# EAGLE library part MOLEX_MINIFIT-16 (library molex_mini-fit)
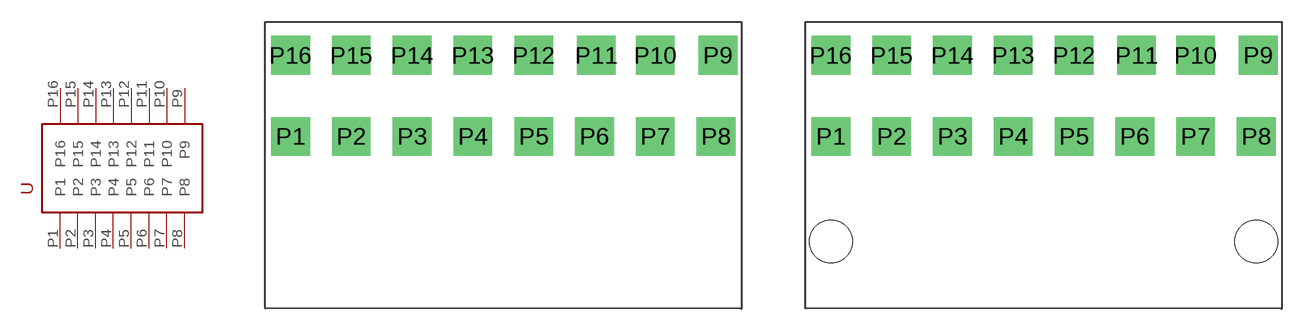
[diagram p2: symbol with the pads of MOLEX_MINIFIT-16_NO_PEG; footprints MOLEX_MINIFIT-16_NO_PEG, MOLEX_MINIFIT-16]

Designator prefix -

## MOLEX_MINIFIT-16NO_PEG  [MOLEX_MINIFIT-16_NO_PEG]
P1  P1
P2  P2
P3  P3
P4  P4
P5  P5
P6  P6
P7  P7
P8  P8
P9  P9
P10  P10
P11  P11
P12  P12
P13  P13
P14  P14
P15  P15
P16  P16

## MOLEX_MINIFIT-16PEG  [MOLEX_MINIFIT-16]
Pads as for MOLEX_MINIFIT-16_NO_PEG

## MOLEX_MINIFIT-16VERTICAL  [MOLEX_MINIFIT-16_VERTICAL]
Pads as for MOLEX_MINIFIT-16_NO_PEG

## Footprint MOLEX_MINIFIT-16_NO_PEG (pad centres in mm)
drill 1.778 pad 2.54 square: P1 -14.732,-2.794; P2 -10.541,-2.794; P3 -6.35,-2.794; P4 -2.159,-2.794; P5 2.032,-2.794; P6 6.223,-2.794; P7 10.414,-2.794; P8 14.605,-2.794; P9 14.732,2.794; P10 10.414,2.794; P11 6.35,2.794; P12 2.032,2.794; P13 -2.159,2.794; P14 -6.35,2.794; P15 -10.541,2.794; P16 -14.732,2.794

## Footprint MOLEX_MINIFIT-16 (pad centres in mm)
drill 1.778 pad 2.54 square: P1 -14.732,-2.794; P2 -10.541,-2.794; P3 -6.35,-2.794; P4 -2.159,-2.794; P5 2.032,-2.794; P6 6.223,-2.794; P7 10.414,-2.794; P8 14.605,-2.794; P9 14.732,2.794; P10 10.414,2.794; P11 6.35,2.794; P12 2.032,2.794; P13 -2.159,2.794; P14 -6.35,2.794; P15 -10.541,2.794; P16 -14.732,2.794
hole 2.946 at -14.732,-10.033
hole 2.946 at 14.605,-10.033

## Footprint MOLEX_MINIFIT-16_VERTICAL (pad centres in mm)
drill 1.778 pad 2.54 square: P1 -14.732,-2.794; P2 -10.541,-2.794; P3 -6.35,-2.794; P4 -2.159,-2.794; P5 2.032,-2.794; P6 6.223,-2.794; P7 10.414,-2.794; P8 14.605,-2.794; P9 14.732,2.794; P10 10.414,2.794; P11 6.35,2.794; P12 2.032,2.794; P13 -2.159,2.794; P14 -6.35,2.794; P15 -10.541,2.794; P16 -14.732,2.794